# Altium footprint library SOIC127P800X203-8N.PcbLib: 1 footprints
Each footprint in its own frame and in the unit in brackets; x right, y up, seen from the top. Pads: shape width x height; smd on the part's side, far side on the other; paste and mask are expansions set on the pad; w line width, h text height; cw(c..) or ccw(c..) is an arc to the next point about the centre after c.
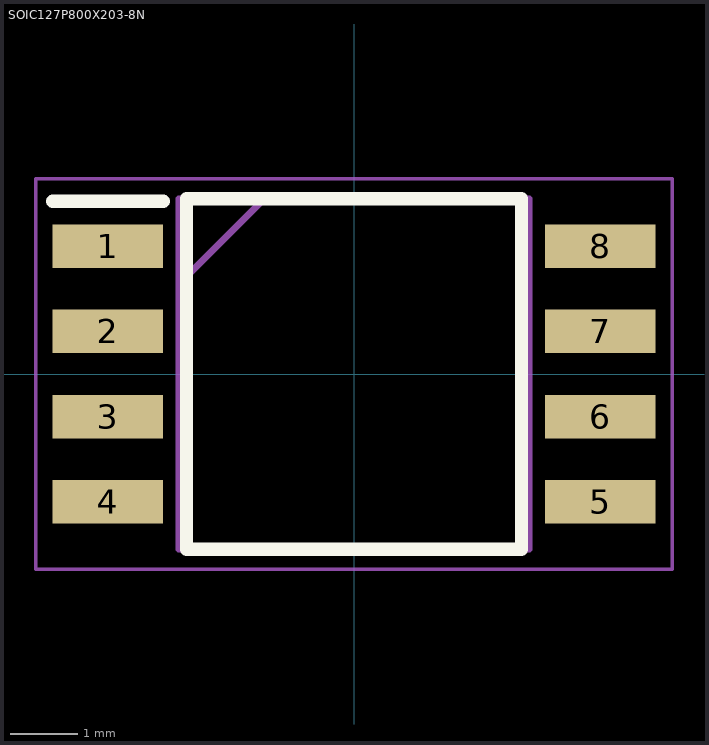
[diagram p0: the footprint, top view; thin cyan lines are the x and y axes]

## SOIC127P800X203-8N [mm]
pads (8):
  rect 1.65x0.65 smd: 1(-3.675,1.905) 2(-3.675,0.635) 3(-3.675,-0.635) 4(-3.675,-1.905) 5(3.675,-1.905) 6(3.675,-0.635) 7(3.675,0.635) 8(3.675,1.905)
Top Overlay:
  lines w0.2: -4.5,2.58 -2.85,2.58 ; -2.5,-2.615 2.5,-2.615 2.5,2.615 -2.5,2.615 -2.5,-2.615
Mechanical 15:
  lines w0.1: -2.615,1.345 -1.345,2.615 ; -2.615,-2.615 2.615,-2.615 2.615,2.615 -2.615,2.615 -2.615,-2.615
Mechanical 20:
  lines w0.05: -4.75,-2.915 4.75,-2.915 4.75,2.915 -4.75,2.915 -4.75,-2.915